# Altium footprint library screwire.PcbLib: 148 footprints (part 5 of 10)
Each footprint in its own frame and in the unit in brackets; x right, y up, seen from the top. Pads: shape width x height; smd on the part's side, far side on the other; paste and mask are expansions set on the pad; w line width, h text height; cw(c..) or ccw(c..) is an arc to the next point about the centre after c.
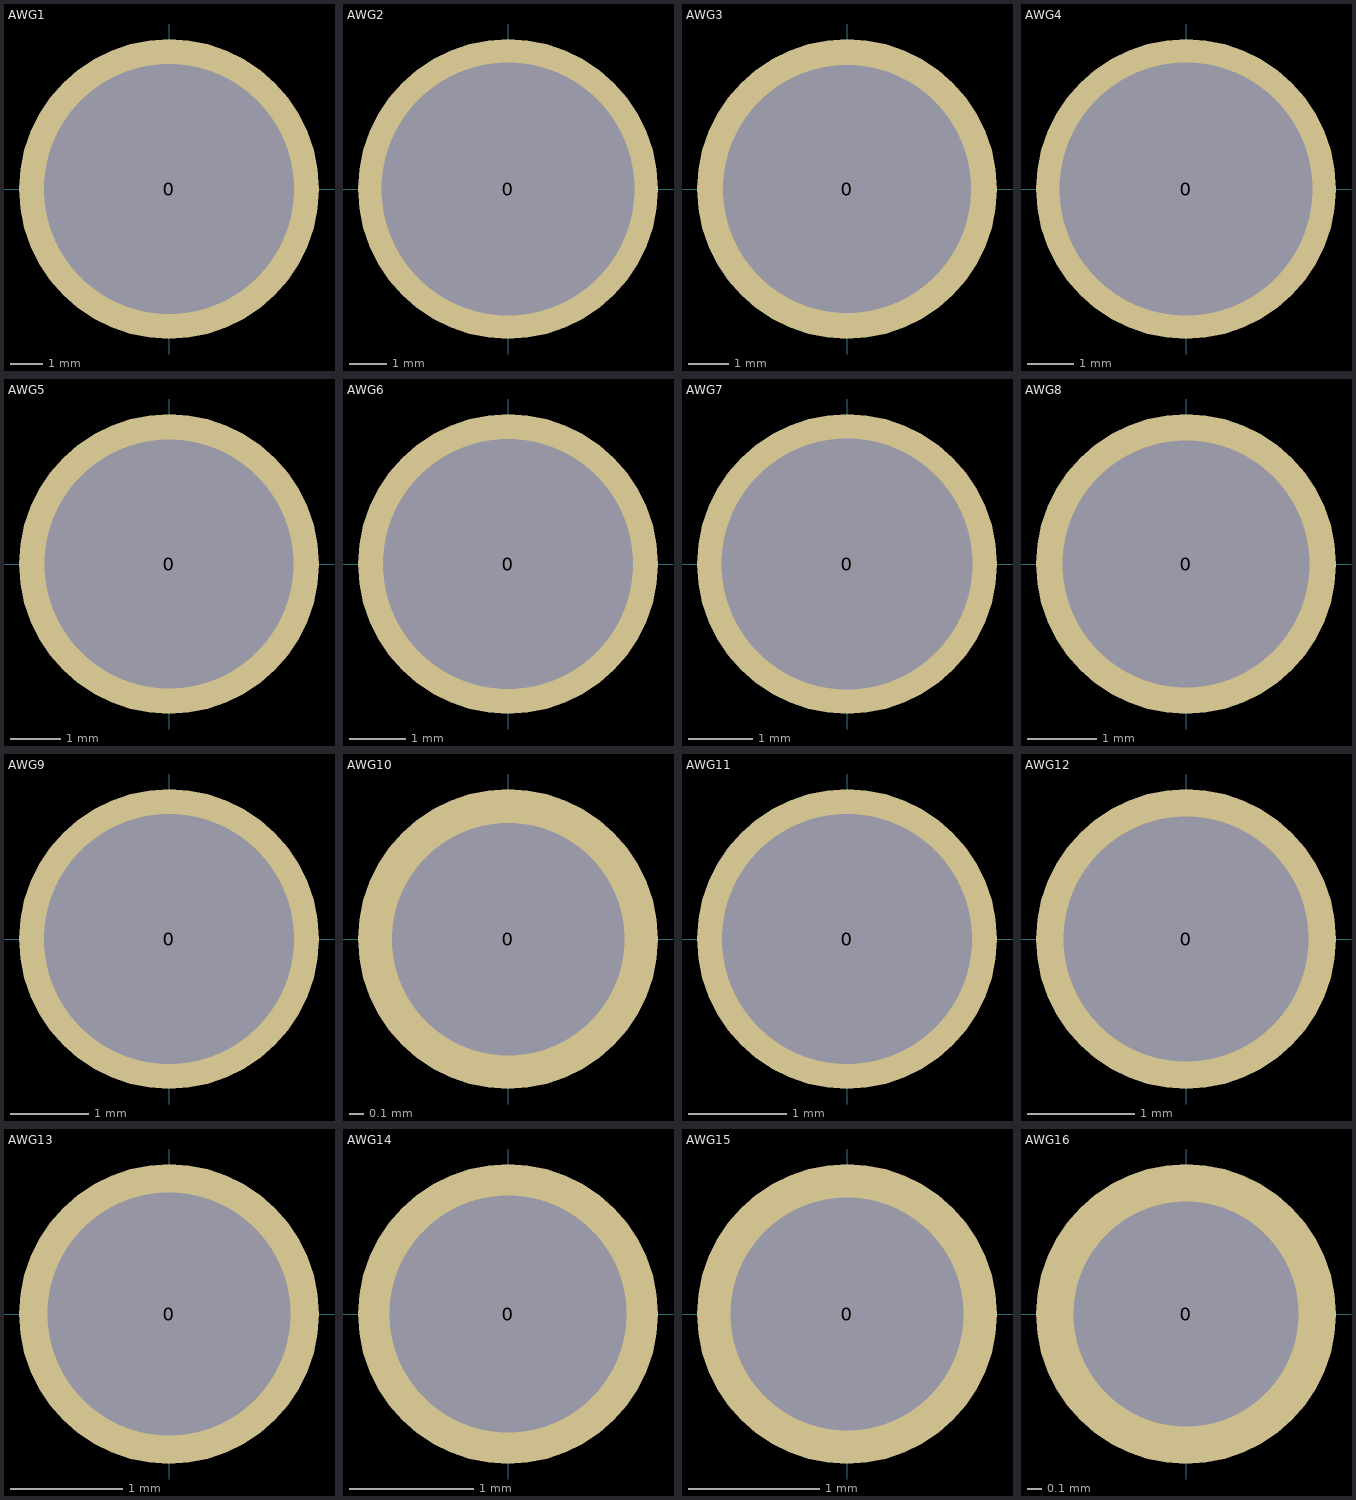
[diagram p4: the footprints below, top view; thin cyan lines are the x and y axes]

## AWG1 [mil]
pads (1):
  round 360 hole 300: 0(0,0)

## AWG2 [mil]
pads (1):
  round 320 hole 270: 0(0,0)

## AWG3 [mil]
pads (1):
  round 290 hole 240: 0(0,0)

## AWG4 [mil]
pads (1):
  round 255 hole 215: 0(0,0)

## AWG5 [mil]
pads (1):
  round 235 hole 195: 0(0,0)

## AWG6 [mil]
pads (1):
  round 210 hole 175: 0(0,0)

## AWG7 [mil]
pads (1):
  round 185 hole 155: 0(0,0)

## AWG8 [mil]
pads (1):
  round 170 hole 140: 0(0,0)

## AWG9 [mil]
pads (1):
  round 150 hole 125: 0(0,0)

## AWG10 [mil]
pads (1):
  round 80 hole 62: 0(0,0)

## AWG11 [mil]
pads (1):
  round 120 hole 100: 0(0,0)

## AWG12 [mil]
pads (1):
  round 110 hole 90: 0(0,0)

## AWG13 [mil]
pads (1):
  round 105 hole 85: 0(0,0)

## AWG14 [mil]
pads (1):
  round 95 hole 75: 0(0,0)

## AWG15 [mil]
pads (1):
  round 90 hole 70: 0(0,0)

## AWG16 [mil]
pads (1):
  round 80 hole 60: 0(0,0)